# Altium footprint library SERIAL_NUMBER-STD.PcbLib: 1 footprints
Each footprint in its own frame and in the unit in brackets; x right, y up, seen from the top. Pads: shape width x height; smd on the part's side, far side on the other; paste and mask are expansions set on the pad; w line width, h text height; cw(c..) or ccw(c..) is an arc to the next point about the centre after c.
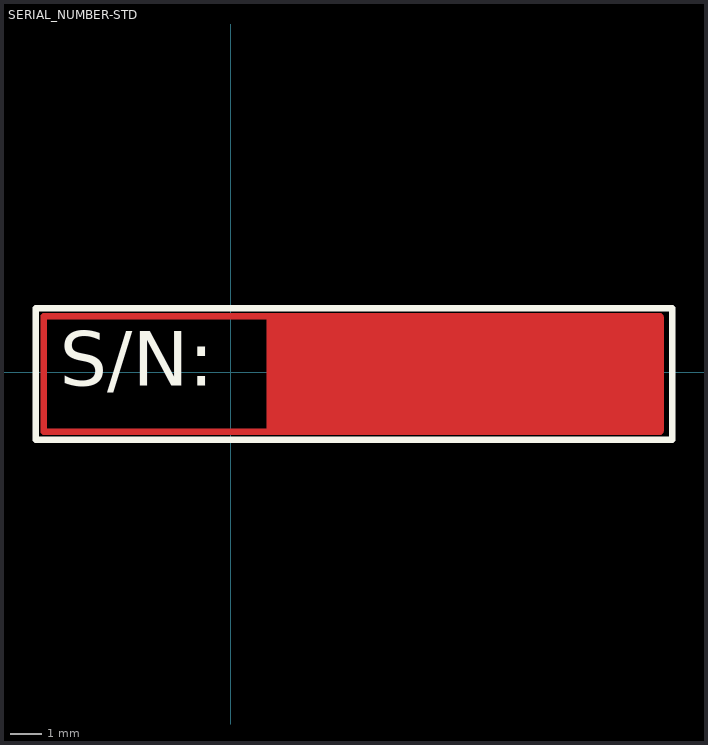
[diagram p0: the footprint, top view; thin cyan lines are the x and y axes]

## SERIAL_NUMBER-STD [mm]
Top Layer:
  rectangle: 1.143,-1.905 13.843,1.778
  lines w0.2: 13.716,-1.905 -5.969,-1.905 -5.969,1.778 13.716,1.778
  text "S/N:" at -5.461,-1.016 h3
Top Overlay:
  lines w0.2: -6.223,-2.159 14.097,-2.159 14.097,2.032 -6.223,2.032 -6.223,-2.159
  text "S/N:" at -5.461,-1.016 h3
Top Solder:
  rectangle: 1.016,-2.032 13.97,1.905